# Altium schematic symbol library Switch-TactileButton.SchLib: 11 symbols
Pins are listed as number, name and electrical type; pins without a type are passive.

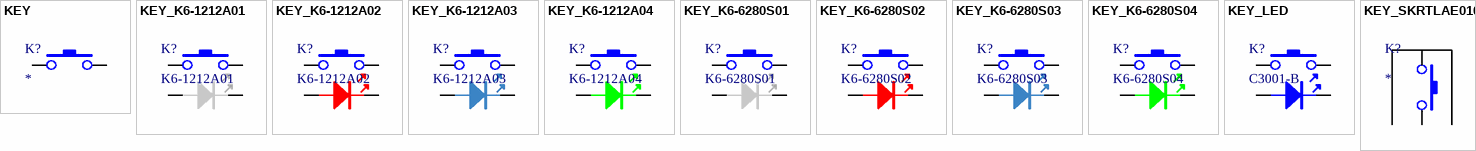
[diagram p0: symbols KEY to KEY_SKRTLAE010]

## KEY
designator K?
轻触开关; Manufacturer_Name: *; Manufacturer_Part_Number: *; LCSC: C285452
footprint DIP-3X6X4.3
footprint DIP-3X6X4.3_C
footprint DIP-3X6X5
footprint DIP-3X6X5_C
footprint DIP-6X6X4.3
footprint DIP-6X6X4.3_C
footprint DIP-6X6X5
footprint DIP-6X6X5_C
footprint DIP-6X6X5_C
footprint DIP-6X6X6
footprint DIP-6X6X6_C
footprint DIP-6X6X7
footprint DIP-6X6X7_C
footprint DIP-6X6X8
footprint DIP-6X6X8_C
footprint DIP-6X6X9
footprint DIP-6X6X9_C
footprint DIP-6X6X10
footprint DIP-6X6X10_C
footprint DIP-6X6X11
footprint DIP-6X6X11_C
footprint DIP-6X6X12
footprint DIP-6X6X12_C
footprint DIP-6X6X13
footprint DIP-6X6X14 (6*6*14mm)
footprint DIP-6X6X15
footprint DIP-12X12X4.3
footprint DIP-12X12X5
footprint DIP-12X12X6
footprint DIP-12X12X8
footprint DIP-12X12X9
footprint DIP-12X12X10
footprint DIP-12X12X11
footprint DIP-12X12X12
footprint DIP-12X12X13
footprint SMD-3X6X2.5
footprint SMD-3X6X4.3
footprint SMD-3X6X5
footprint SMD-4X4X1.5
footprint SMD-6X6X4.3
footprint SMD-6X6X5
footprint SMD-6X6X6
footprint SMD-6X6X7
footprint SMD-6X6X8
footprint SMD-6X6X9
footprint SMD-6X6X10
footprint SMD-6X6X11
footprint SMD-6X6X12
footprint SMD-6X6X13 (6*6*13mm)
footprint SMD-6X6X14
footprint SMD-6X6X15
footprint SMD-12X12X4.3
footprint SMD-12X12X5
footprint SMD-12X12X6
footprint SMD-12X12X7
footprint SMD-12X12X8 (12*12*8mm)
footprint SMD-12X12X9
footprint SMD-12X12X10
footprint SMD-12X12X11
footprint SMD-12X12X12 (12*12*12mm)
footprint SMD-12X12X13
footprint SMD-6X6X5-C
footprint SMD-6.2X6.5X2.5 (KEY-SMD_4P-L6.2-W6.5-P4.50-LS8.0_SKHMXX)
footprint SMD-4P-L3.4-W3.4-P2.00-LS4.0_TS3315A160GF
footprint SMD-5.1X5.1X2_TS-1187A-C-D-B (XKB Connection(中国星坤)  TS-1187A-C-D-B)
footprint SMD-5.1X5.1X2.5_TS-1187A-C-E-B (XKB Connection(中国星坤)  TS-1187A-C-E-B)
footprint SMD-6X6X7.5-C (6*6*7.5mm 卧贴 轻触开关 Yuandi(元迪) TS-1037-A8B3-D2)
pins: 1, 3

## KEY_K6-1212A01
designator K?, comment K6-1212A01
轻触开关 带灯（白）; Manufacturer_Name: 一键; Manufacturer_Part_Number: TS-G010-W; Manufacturer_Name_1: 韩国韩荣; Manufacturer_Part_Number_1: K6-1212A01; ComponentLink1Description: 一键; ComponentLink1URL: https://item.taobao.com/item.htm?id=19628853260&pisk=gVR0T_GF7KWbOUVbnVfjHsSRuHHRHs16_hFOX1IZUgSS5-exlO7wShA9HFSOshxMjiBZcsdMqeTtlC3fgfbwv3f9kiI9qVxv55njCsFajnTEcEItlCjNqn-GCqsObGx97K3-9XLXl11ajDhK9g5DXht03NSq777f-4QqPKlwL11Zvc28_tGh1nyetNaaUaS5SNz43h5P4N7V_5SV04jPSwwa0h5Zr4bC7SyV0S8PawQd_ZyV7TzPlwVV7N5ZrUS571Swbtukzg_N_GlJmr7DbnOrbOVXi5j_EK_cnM8V0EKkaCrdAEW_s5jcot2vugVa_Qv86LwC0vaRfsIXuZxsOS1VIpTOSnc0ghYBN3byYfVd0UTpptOqBWBhMiX9g64ZgUfcm9RA3PPeYUYwpTA-8X1cgiJOGFUnDUADDEOkWPyPisplKIfEOoS9eeAGSCisZHYBN3byYfmV41wzLJXu1au9aRw13a_lvCWhj24TRPIKr4quCt75uX3orRw13a_Cv40uDZ6VPZld.&spm=tbpc.boughtlist.suborder_itemtitle.1.102a2e8dwEtRwl
footprint DIP-LED-12X12X7.3_K6-1212A01 (韩国韩荣  K6-1212A01)
pins: 1, 2, A, K

## KEY_K6-1212A02
designator K?, comment K6-1212A02
轻触开关 带灯（红）; Manufacturer_Name: 一键; Manufacturer_Part_Number: TS-G010-R; Manufacturer_Name_1: 韩国韩荣; Manufacturer_Part_Number_1: K6-1212A02; ComponentLink1Description: 一键; ComponentLink1URL: https://item.taobao.com/item.htm?id=19628853260&pisk=gVR0T_GF7KWbOUVbnVfjHsSRuHHRHs16_hFOX1IZUgSS5-exlO7wShA9HFSOshxMjiBZcsdMqeTtlC3fgfbwv3f9kiI9qVxv55njCsFajnTEcEItlCjNqn-GCqsObGx97K3-9XLXl11ajDhK9g5DXht03NSq777f-4QqPKlwL11Zvc28_tGh1nyetNaaUaS5SNz43h5P4N7V_5SV04jPSwwa0h5Zr4bC7SyV0S8PawQd_ZyV7TzPlwVV7N5ZrUS571Swbtukzg_N_GlJmr7DbnOrbOVXi5j_EK_cnM8V0EKkaCrdAEW_s5jcot2vugVa_Qv86LwC0vaRfsIXuZxsOS1VIpTOSnc0ghYBN3byYfVd0UTpptOqBWBhMiX9g64ZgUfcm9RA3PPeYUYwpTA-8X1cgiJOGFUnDUADDEOkWPyPisplKIfEOoS9eeAGSCisZHYBN3byYfmV41wzLJXu1au9aRw13a_lvCWhj24TRPIKr4quCt75uX3orRw13a_Cv40uDZ6VPZld.&spm=tbpc.boughtlist.suborder_itemtitle.1.102a2e8dwEtRwl
footprint DIP-LED-12X12X7.3_K6-1212A02 (韩国韩荣  K6-1212A02)
pins: 1, 2, A, K

## KEY_K6-1212A03
designator K?, comment K6-1212A03
轻触开关 带灯（蓝）; Manufacturer_Name: 一键; Manufacturer_Part_Number: TS-G010-B; Manufacturer_Name_1: 韩国韩荣; Manufacturer_Part_Number_1: K6-1212A03; ComponentLink1Description: 一键; ComponentLink1URL: https://item.taobao.com/item.htm?id=19628853260&pisk=gVR0T_GF7KWbOUVbnVfjHsSRuHHRHs16_hFOX1IZUgSS5-exlO7wShA9HFSOshxMjiBZcsdMqeTtlC3fgfbwv3f9kiI9qVxv55njCsFajnTEcEItlCjNqn-GCqsObGx97K3-9XLXl11ajDhK9g5DXht03NSq777f-4QqPKlwL11Zvc28_tGh1nyetNaaUaS5SNz43h5P4N7V_5SV04jPSwwa0h5Zr4bC7SyV0S8PawQd_ZyV7TzPlwVV7N5ZrUS571Swbtukzg_N_GlJmr7DbnOrbOVXi5j_EK_cnM8V0EKkaCrdAEW_s5jcot2vugVa_Qv86LwC0vaRfsIXuZxsOS1VIpTOSnc0ghYBN3byYfVd0UTpptOqBWBhMiX9g64ZgUfcm9RA3PPeYUYwpTA-8X1cgiJOGFUnDUADDEOkWPyPisplKIfEOoS9eeAGSCisZHYBN3byYfmV41wzLJXu1au9aRw13a_lvCWhj24TRPIKr4quCt75uX3orRw13a_Cv40uDZ6VPZld.&spm=tbpc.boughtlist.suborder_itemtitle.1.102a2e8dwEtRwl
footprint DIP-LED-12X12X7.3_K6-1212A03 (韩国韩荣  K6-1212A03)
pins: 1, 2, A, K

## KEY_K6-1212A04
designator K?, comment K6-1212A04
轻触开关 带灯（绿）; Manufacturer_Name: 一键; Manufacturer_Part_Number: TS-G010-G; Manufacturer_Name_1: 韩国韩荣; Manufacturer_Part_Number_1: K6-1212A04; ComponentLink1Description: 一键; ComponentLink1URL: https://item.taobao.com/item.htm?id=19628853260&pisk=gVR0T_GF7KWbOUVbnVfjHsSRuHHRHs16_hFOX1IZUgSS5-exlO7wShA9HFSOshxMjiBZcsdMqeTtlC3fgfbwv3f9kiI9qVxv55njCsFajnTEcEItlCjNqn-GCqsObGx97K3-9XLXl11ajDhK9g5DXht03NSq777f-4QqPKlwL11Zvc28_tGh1nyetNaaUaS5SNz43h5P4N7V_5SV04jPSwwa0h5Zr4bC7SyV0S8PawQd_ZyV7TzPlwVV7N5ZrUS571Swbtukzg_N_GlJmr7DbnOrbOVXi5j_EK_cnM8V0EKkaCrdAEW_s5jcot2vugVa_Qv86LwC0vaRfsIXuZxsOS1VIpTOSnc0ghYBN3byYfVd0UTpptOqBWBhMiX9g64ZgUfcm9RA3PPeYUYwpTA-8X1cgiJOGFUnDUADDEOkWPyPisplKIfEOoS9eeAGSCisZHYBN3byYfmV41wzLJXu1au9aRw13a_lvCWhj24TRPIKr4quCt75uX3orRw13a_Cv40uDZ6VPZld.&spm=tbpc.boughtlist.suborder_itemtitle.1.102a2e8dwEtRwl
footprint DIP-LED-12X12X7.3_K6-1212A04 (韩国韩荣  K6-1212A04)
pins: 1, 2, A, K

## KEY_K6-6280S01
designator K?, comment K6-6280S01
轻触开关 带灯（白）; Manufacturer_Name: 一键; Manufacturer_Part_Number: TQ2-10-8-1-H; Manufacturer_Name_1: 韩国韩荣; Manufacturer_Part_Number_1: K6-6280S01; ComponentLink1Description: 一键; ComponentLink1URL: https://item.taobao.com/item.htm?id=573459885542&pisk=gK0UGoAIieLenIB6RAUP_Yz_x2zL2zJXE4w7ZbcuOJ2H2WTlzbl0NBpJ9cPoFAdJ9yGuUYk_BaNWvLQrQvGmAkMSA8VuIAcCR8TL4YljHY_WJDNlzAG8qYgrwaPoZYdLFBKs9XU8rK9fzEGK97Xk92gUZG4i6SjuZhZhYFlB1K9XlU-hszJehYNDV6kggS4utujHSCP7wwXoEJfisRF8Z9Vl-ClgBRbuEJV3IOV8aMjoEWXgISFVtTbutNVgaR2urzDosCP7I84urYciNL0omOP7xCllP_rwyjqUnX2NufnQt8sKORWVnVoaY-bbQabo7Wl16zL5u3wmDJZbnAY18zlgavwsnEbaSooxN7ke8w4Ijc3LRV9VMkkzdo0_b9j3gyyUm2qOgZlUqcuaR2vRDfGaKozsfhpQVykED-EHXdHr_JMo8lXeC8ij12qZnd_ZeuoxN7ke8wDc4xB8s_4myDWl4kVT_-Ow_G9fccSACbG52gE765yXtkjR2kVT_-OvMgI84tFahBqh.&skuId=4679630067102&spm=tbpc.boughtlist.suborder_itemtitle.1.102a2e8dwEtRwl
footprint SMD-LED-10X10X4_K6-6280S01 (CHAU-HUA   C3001 SERIES)
pins: 1, 2, A, K

## KEY_K6-6280S02
designator K?, comment K6-6280S02
轻触开关 带灯（红）; Manufacturer_Name: 一键; Manufacturer_Part_Number: TQ2-10-8-3-H; Manufacturer_Name_1: 韩国韩荣; Manufacturer_Part_Number_1: K6-6280S02; ComponentLink1Description: 一键; ComponentLink1URL: https://item.taobao.com/item.htm?id=573459885542&pisk=gK0UGoAIieLenIB6RAUP_Yz_x2zL2zJXE4w7ZbcuOJ2H2WTlzbl0NBpJ9cPoFAdJ9yGuUYk_BaNWvLQrQvGmAkMSA8VuIAcCR8TL4YljHY_WJDNlzAG8qYgrwaPoZYdLFBKs9XU8rK9fzEGK97Xk92gUZG4i6SjuZhZhYFlB1K9XlU-hszJehYNDV6kggS4utujHSCP7wwXoEJfisRF8Z9Vl-ClgBRbuEJV3IOV8aMjoEWXgISFVtTbutNVgaR2urzDosCP7I84urYciNL0omOP7xCllP_rwyjqUnX2NufnQt8sKORWVnVoaY-bbQabo7Wl16zL5u3wmDJZbnAY18zlgavwsnEbaSooxN7ke8w4Ijc3LRV9VMkkzdo0_b9j3gyyUm2qOgZlUqcuaR2vRDfGaKozsfhpQVykED-EHXdHr_JMo8lXeC8ij12qZnd_ZeuoxN7ke8wDc4xB8s_4myDWl4kVT_-Ow_G9fccSACbG52gE765yXtkjR2kVT_-OvMgI84tFahBqh.&skuId=4679630067102&spm=tbpc.boughtlist.suborder_itemtitle.1.102a2e8dwEtRwl
footprint SMD-LED-10X10X4_K6-6280S02 (CHAU-HUA   C3001 SERIES)
pins: 1, 2, A, K

## KEY_K6-6280S03
designator K?, comment K6-6280S03
轻触开关 带灯（蓝）; Manufacturer_Name: 一键; Manufacturer_Part_Number: TQ2-10-8-7-H; Manufacturer_Name_1: 韩国韩荣; Manufacturer_Part_Number_1: K6-6280S03; ComponentLink1Description: 一键; ComponentLink1URL: https://item.taobao.com/item.htm?id=573459885542&pisk=gK0UGoAIieLenIB6RAUP_Yz_x2zL2zJXE4w7ZbcuOJ2H2WTlzbl0NBpJ9cPoFAdJ9yGuUYk_BaNWvLQrQvGmAkMSA8VuIAcCR8TL4YljHY_WJDNlzAG8qYgrwaPoZYdLFBKs9XU8rK9fzEGK97Xk92gUZG4i6SjuZhZhYFlB1K9XlU-hszJehYNDV6kggS4utujHSCP7wwXoEJfisRF8Z9Vl-ClgBRbuEJV3IOV8aMjoEWXgISFVtTbutNVgaR2urzDosCP7I84urYciNL0omOP7xCllP_rwyjqUnX2NufnQt8sKORWVnVoaY-bbQabo7Wl16zL5u3wmDJZbnAY18zlgavwsnEbaSooxN7ke8w4Ijc3LRV9VMkkzdo0_b9j3gyyUm2qOgZlUqcuaR2vRDfGaKozsfhpQVykED-EHXdHr_JMo8lXeC8ij12qZnd_ZeuoxN7ke8wDc4xB8s_4myDWl4kVT_-Ow_G9fccSACbG52gE765yXtkjR2kVT_-OvMgI84tFahBqh.&skuId=4679630067102&spm=tbpc.boughtlist.suborder_itemtitle.1.102a2e8dwEtRwl
footprint SMD-LED-10X10X4_K6-6280S03 (CHAU-HUA   C3001 SERIES)
pins: 1, 2, A, K

## KEY_K6-6280S04
designator K?, comment K6-6280S04
轻触开关 带灯（绿）; Manufacturer_Name: 一键; Manufacturer_Part_Number: TQ2-10-8-6-H; Manufacturer_Name_1: 韩国韩荣; Manufacturer_Part_Number_1: K6-6280S04; ComponentLink1Description: 一键; ComponentLink1URL: https://item.taobao.com/item.htm?id=573459885542&pisk=gK0UGoAIieLenIB6RAUP_Yz_x2zL2zJXE4w7ZbcuOJ2H2WTlzbl0NBpJ9cPoFAdJ9yGuUYk_BaNWvLQrQvGmAkMSA8VuIAcCR8TL4YljHY_WJDNlzAG8qYgrwaPoZYdLFBKs9XU8rK9fzEGK97Xk92gUZG4i6SjuZhZhYFlB1K9XlU-hszJehYNDV6kggS4utujHSCP7wwXoEJfisRF8Z9Vl-ClgBRbuEJV3IOV8aMjoEWXgISFVtTbutNVgaR2urzDosCP7I84urYciNL0omOP7xCllP_rwyjqUnX2NufnQt8sKORWVnVoaY-bbQabo7Wl16zL5u3wmDJZbnAY18zlgavwsnEbaSooxN7ke8w4Ijc3LRV9VMkkzdo0_b9j3gyyUm2qOgZlUqcuaR2vRDfGaKozsfhpQVykED-EHXdHr_JMo8lXeC8ij12qZnd_ZeuoxN7ke8wDc4xB8s_4myDWl4kVT_-Ow_G9fccSACbG52gE765yXtkjR2kVT_-OvMgI84tFahBqh.&skuId=4679630067102&spm=tbpc.boughtlist.suborder_itemtitle.1.102a2e8dwEtRwl
footprint SMD-LED-10X10X4_K6-6280S04 (CHAU-HUA   C3001 SERIES)
pins: 1, 2, A, K

## KEY_LED
designator K?, comment C3001-B
轻触开关 带灯; Manufacturer_Name: 昭华; Manufacturer_Part_Number: C3001-B-V-TR; Manufacturer_Name_1: 韩国韩荣; Manufacturer_Part_Number_1: K6-6280S01
footprint SMD-LED-10X10X13 (韩国韩荣 K6-6272S01)
footprint SMD-LED-10X10X4 (CHAU-HUA   C3001 SERIES)
footprint DIP-LED-12X12X7.3 (韩国韩荣  K6-1212A01)
pins: 1, 2, A, K

## KEY_SKRTLAE010
designator K?
轻触开关; Manufacturer_Name: ALPSALPINE; Manufacturer_Part_Number: SKRTLAE010; LCSC: C110293
footprint SMD-SKRTLAE010 (SKRTLAE010 (ALPSALPINE))
pins: 1, 2, 3